# Altium footprint library Diode_Vishay_1N4148W-HE3-08_eec_MFG.PcbLib: 1 footprints
Each footprint in its own frame and in the unit in brackets; x right, y up, seen from the top. Pads: shape width x height; smd on the part's side, far side on the other; paste and mask are expansions set on the pad; w line width, h text height; cw(c..) or ccw(c..) is an arc to the next point about the centre after c.
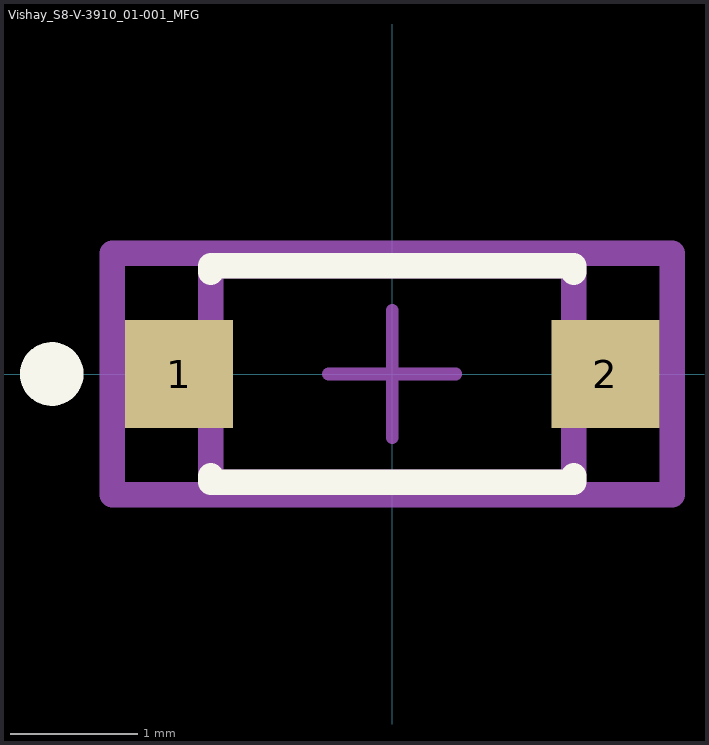
[diagram p0: the footprint, top view; thin cyan lines are the x and y axes]

## Vishay_S8-V-3910_01-001_MFG [mm]
pads (2):
  rect 0.85x0.85 smd paste+0 mask+0: 1(-1.675,0) 2(1.675,0)
Top Overlay:
  circle w0.25: c-2.675,0 r0.125
  lines w0.2: -1.425,-0.8 -1.425,-0.85 1.425,-0.85 1.425,-0.8 ; -1.425,0.8 -1.425,0.85 1.425,0.85 1.425,0.8
Mechanical 10:
  lines w0.2: -2.2,-0.95 2.2,-0.95 2.2,0.95 -2.2,0.95 -2.2,-0.95
  text ".Designator" at 0,0.188 h1
Mechanical 12:
  lines w0.2: -1.425,-0.85 1.425,-0.85 1.425,0.85 -1.425,0.85 -1.425,-0.85
Mechanical 15:
  lines w0.1: -0.5,0 0.5,0 ; 0,-0.5 0,0.5
  lines w0.2: -2.2,-0.95 2.2,-0.95 2.2,0.95 -2.2,0.95 -2.2,-0.95
3D body "Diode_Vishay_1N4148W-HE3-08_eec.STEP": height 0.25, standoff 0, extent -2.2,-0.95 2.2,0.95